# Altium integrated library CMI-1275-85T.IntLib: 1 symbol
Pins are listed as number, name and electrical type; pins without a type are passive.

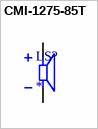
[diagram p0: symbol CMI-1275-85T]

## CMI-1275-85T
designator LS?
CUI Inc Buzzer; MP: CMI-1275-85T; Price: None; Availability: Unavailable; Package: None; Value: *
footprint CUI_CMI-1275-85T
pins: N, P